# Altium footprint library CN_SOCKET_PLCC44.PcbLib: 1 footprints
Each footprint in its own frame and in the unit in brackets; x right, y up, seen from the top. Pads: shape width x height; smd on the part's side, far side on the other; paste and mask are expansions set on the pad; w line width, h text height; cw(c..) or ccw(c..) is an arc to the next point about the centre after c.
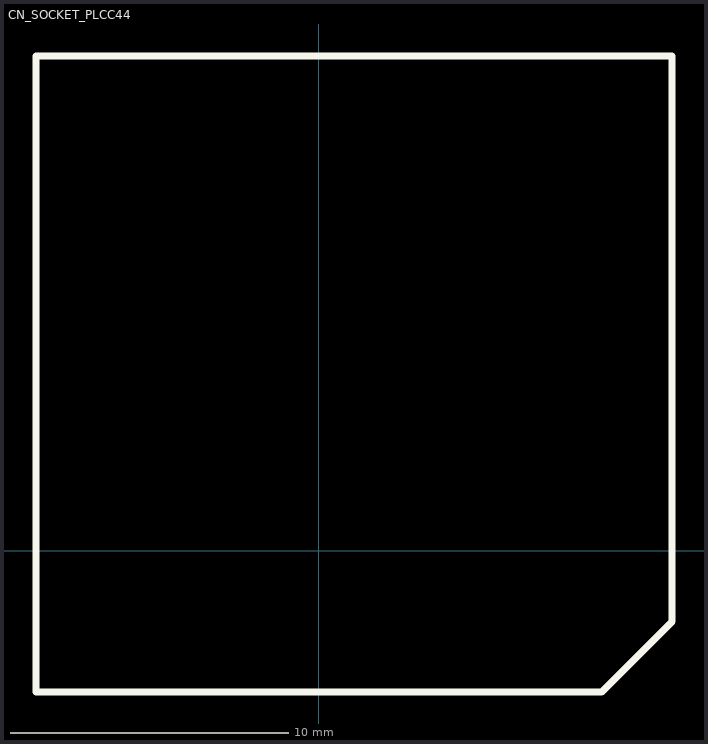
[diagram p0: the footprint, top view; thin cyan lines are the x and y axes]

## CN_SOCKET_PLCC44 [mm] "Socket for PLCC44 packages"
Top Overlay:
  lines w0.254: -10.16,-5.08 10.16,-5.08 12.7,-2.54 12.7,17.78 -10.16,17.78 -10.16,-5.08
3D body: height 8.55, standoff -3.2, extent -10.32,-5.24 12.86,17.94